# Altium footprint library 4GLTE_GPS_SARA-R42X_UBL.PcbLib: 1 footprints
Each footprint in its own frame and in the unit in brackets; x right, y up, seen from the top. Pads: shape width x height; smd on the part's side, far side on the other; paste and mask are expansions set on the pad; w line width, h text height; cw(c..) or ccw(c..) is an arc to the next point about the centre after c.
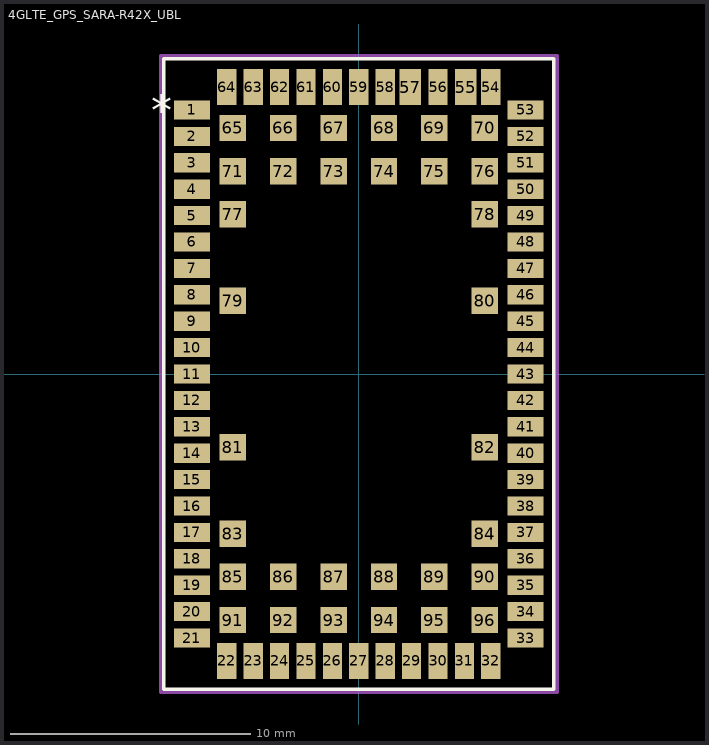
[diagram p0: the footprint, top view; thin cyan lines are the x and y axes]

## 4GLTE_GPS_SARA-R42X_UBL [mil]
pads (96):
  rect 59.1x31.5 smd paste+0 mask+0: 1(-273.65,433) 2(-273.65,389.7) 3(-273.65,346.4) 4(-273.65,303.1) 5(-273.65,259.8) 6(-273.65,216.5) 7(-273.65,173.2) 8(-273.65,129.9) 9(-273.65,86.6) 10(-273.65,43.3) 11(-273.65,0) 12(-273.65,-43.3) 13(-273.65,-86.6) 14(-273.65,-129.9) 15(-273.65,-173.2) 16(-273.65,-216.5) 17(-273.65,-259.8) 18(-273.65,-303.1) 19(-273.65,-346.4) 20(-273.65,-389.7) 21(-273.65,-433) 33(273.65,-433) 34(273.65,-389.7) 35(273.65,-346.4) 36(273.65,-303.1) 37(273.65,-259.8) 38(273.65,-216.5) 39(273.65,-173.2) 40(273.65,-129.9) 41(273.65,-86.6) 42(273.65,-43.3) 43(273.65,0) 44(273.65,43.3) 45(273.65,86.6) 46(273.65,129.9) 47(273.65,173.2) 48(273.65,216.5) 49(273.65,259.8) 50(273.65,303.1) 51(273.65,346.4) 52(273.65,389.7) 53(273.65,433)
  rect 31.5x59.1 smd paste+0 mask+0: 22(-216.5,-470.5) 23(-173.2,-470.5) 24(-129.9,-470.5) 25(-86.6,-470.5) 26(-43.3,-470.5) 27(0,-470.5) 28(43.3,-470.5) 29(86.6,-470.5) 30(129.9,-470.5) 31(173.2,-470.5) 32(216.5,-470.5) 54(216.5,470.5) 56(129.9,470.5) 58(43.3,470.5) 59(0,470.5) 60(-43.3,470.5) 61(-86.6,470.5) 62(-129.9,470.5) 63(-173.2,470.5) 64(-216.5,470.5)
  rect 35.4x59.1 smd paste-29.55 mask-29.5: 55(175.2,470.5) 57(84.6,470.5)
  rect 43.3x43.3 smd paste-21.65 mask-21.5: 65(-206.75,403.5) 66(-124.05,403.5) 67(-41.35,403.5) 68(41.35,403.5) 69(124.05,403.5) 70(206.75,403.5) 71(-206.75,332.6) 72(-124.05,332.6) 73(-41.35,332.6) 74(41.35,332.6) 75(124.05,332.6) 76(206.75,332.6) 77(-206.75,261.7) 78(206.75,261.7) 79(-206.75,120) 80(206.75,120) 81(-206.75,-120) 82(206.75,-120) 83(-206.75,-261.7) 84(206.75,-261.7) 85(-206.75,-332.6) 86(-124.05,-332.6) 87(-41.35,-332.6) 88(41.35,-332.6) 89(124.05,-332.6) 90(206.75,-332.6) 91(-206.75,-403.5) 92(-124.05,-403.5) 93(-41.35,-403.5) 94(41.35,-403.5) 95(124.05,-403.5) 96(206.75,-403.5)
Top Overlay:
  lines w6: -319.95,-516.8 -319.95,516.8 319.95,516.8 319.95,-516.8 -319.95,-516.8
  text "*" at -340.7,408 h50
Mechanical 15:
  lines w6: -324.95,-521.8 -242.25,-521.8 242.25,-521.8 324.95,-521.8 324.95,-458.75 324.95,458.75 324.95,521.8 242.25,521.8 -242.25,521.8 -324.95,521.8 -324.95,458.75 -324.95,-458.75 -324.95,-521.8